# Altium schematic symbol library V2SchLib.SchLib: 46 symbols (part 1 of 3)
Pins are listed as number, name and electrical type; pins without a type are passive.

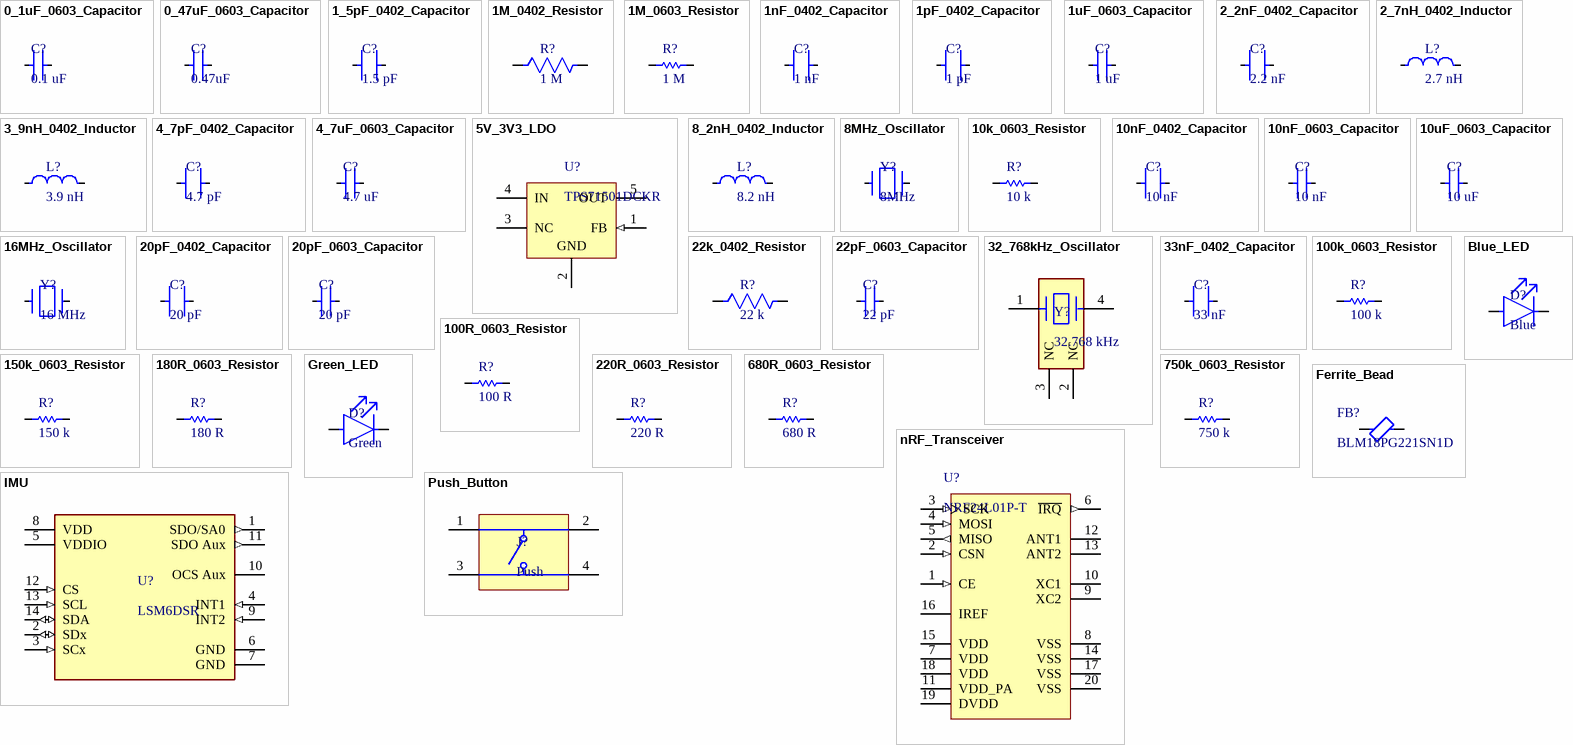
[diagram p0: symbols 0_1uF_0603_Capacitor to Push_Button]

## 0_1uF_0603_Capacitor
designator C?, comment 0.1 uF
Ceramic Capacitor, Multilayer, Ceramic, 50V, 10% +Tol, 10% -Tol, X8L, -40/+15% TC, 0.1uF, Surface Mount, 0603, GCM188L81H104KA57D; Manufacturer: Murata; Value: 100nF; Multilayer: Yes; Reference Standard: AEC-Q200; Supplier: Digikey; Supplier Part Number: 490-6049-1-ND; Manufacturer Part Number: GCM188L81H104KA57D; RoHS: Yes; Category: Ceramic Capacitors; Stock: 1946064; Pricing: 1=0.13, 10=0.087, 50=0.0522, 100=0.0411, 500=0.03032, 1000=0.0251 (USD); Mounting Technology: Surface Mount; Pins: 2; Dielectric Material: Ceramic; Package Shape: Rectangular; Case/Package: 0603; Terminal Finish: Nickel; Min Operating Temperature: -55°C; Max Operating Temperature: 150°C; JESD-609 Code: e3; Capacitor Type: Ceramic; Tolerance  (fill in as +-): 10%; Packaging: Tape and Reel; Tolerance (fill in as +-): 10%; Rated DC Voltage (URdc): 50V; Temperature Characteristics Code: X8L; Termination: Wraparound; Reach SVHC Compliant: Yes; RoHS Compliant: Yes; ComponentLink1URL: https://datasheet.ciiva.com:443/pdfs/VipMasterIC/IC/MURE/MURE-S-A0004370842/MURE-S-A0004371512-1.pdf?src-supplier=IHS+Markit; ComponentLink1Description: https://datasheet.ciiva.com:443/pdfs/VipMasterIC/IC/MURE/MURE-S-A0004370842/MURE-S-A0004371512-1.pdf?src-supplier=IHS+Markit; Supplier 1: Digikey; Supplier Part Number 1: 490-6049-1-ND
footprint 0_1uF_0603_Capacitor
pins: 1, 2

## 0_47uF_0603_Capacitor
designator C?, comment 0.47uF
Ceramic Capacitor, Multilayer, Ceramic, 25V, 10% +Tol, 10% -Tol, X7R, 15% TC, 0.47uF, Surface Mount, 0603, GRM188R71E474KA12D; Manufacturer: Murata; Value: 470nF; Multilayer: Yes; Supplier: Digikey; Supplier Part Number: 490-3291-1-ND; Manufacturer Part Number: GRM188R71E474KA12D; RoHS: Yes; Category: Ceramic Capacitors; Stock: 1965293; Pricing: 1=0.16, 10=0.107, 50=0.0642, 100=0.0505, 500=0.03728, 1000=0.03087 (USD); Mounting Technology: Surface Mount; Pins: 2; Dielectric Material: Ceramic; Package Shape: Rectangular; Case/Package: 0603; Terminal Finish: Nickel; Min Operating Temperature: -55°C; Max Operating Temperature: 125°C; Capacitor Type: Ceramic; Tolerance  (fill in as +-): 10%; Package Style: SMTMeter; Packaging: Tape and Reel; Tolerance (fill in as +-): 10%; Rated DC Voltage (URdc): 25V; Temperature Characteristics Code: X7R; Termination: Wraparound; JESD-609 Code: e3; Length: 1.6mm; Width: 0.8mm; Height: 0.8mm; Reach SVHC Compliant: Yes; RoHS Compliant: Yes; ComponentLink1URL: https://datasheet.ciiva.com:443/pdfs/VipMasterIC/IC/MURE/MURE-S-A0004380799/MURE-S-A0004387457-1.pdf?src-supplier=IHS+Markit; ComponentLink1Description: https://datasheet.ciiva.com:443/pdfs/VipMasterIC/IC/MURE/MURE-S-A0004380799/MURE-S-A0004387457-1.pdf?src-supplier=IHS+Markit; Supplier 1: Digikey; Supplier Part Number 1: 490-3291-1-ND
footprint 0_47uF_0603_Capacitor
pins: 1, 2

## 1_5pF_0402_Capacitor
designator C?, comment 1.5 pF
Ceramic Capacitor, Multilayer, Ceramic, 50V, 6.67% +Tol, 6.67% -Tol, C0G, 30ppm/Cel TC, 0.0000015uF, Surface Mount, 0402, GJM1555C1H1R5BB01D; Manufacturer: Murata; Value: 1.5pF; Multilayer: Yes; Supplier: Digikey; Supplier Part Number: 490-8087-1-ND; Manufacturer Part Number: GJM1555C1H1R5BB01D; RoHS: Yes; Category: Ceramic Capacitors; Stock: 82715; Pricing: 1=0.14, 10=0.095, 50=0.057, 100=0.0449, 500=0.03314, 1000=0.02744, 2500=0.02554, 5000=0.02336 (USD); Mounting Technology: Surface Mount; Pins: 2; Dielectric Material: Ceramic; Package Shape: Rectangular; Case/Package: 0402; Terminal Finish: Nickel; Min Operating Temperature: -55°C; Max Operating Temperature: 125°C; JESD-609 Code: e3; Capacitor Type: Ceramic; Tolerance  (fill in as +-): 6.67%; Package Style: SMTMeter; Packaging: Tape and Reel; Tolerance (fill in as +-): 6.67%; Rated DC Voltage (URdc): 50V; Temperature Characteristics Code: C0G; Termination: Wraparound; Length: 1mm; Width: 0.5mm; Height: 0.5mm; Reach SVHC Compliant: Yes; RoHS Compliant: Yes; ComponentLink1URL: https://datasheet.ciiva.com:443/pdfs/VipMasterIC/IC/MURE/MURE-S-A0008911298/MURE-S-A0008911391-1.pdf?src-supplier=IHS+Markit; ComponentLink1Description: https://datasheet.ciiva.com:443/pdfs/VipMasterIC/IC/MURE/MURE-S-A0008911298/MURE-S-A0008911391-1.pdf?src-supplier=IHS+Markit; ComponentLink2URL: https://datasheet.ciiva.com/8030/1700191-8030107.pdf?src-supplier=Element14; ComponentLink2Description: https://datasheet.ciiva.com/8030/1700191-8030107.pdf?src-supplier=Element14; ComponentLink3URL: https://datasheet.ciiva.com/26843/getdatasheetpartid-698463-26843693.pdf?src-supplier=Verical; ComponentLink3Description: https://datasheet.ciiva.com/26843/getdatasheetpartid-698463-26843693.pdf?src-supplier=Verical; ComponentLink4URL: https://datasheet.ciiva.com/29542/partnumbering-e-01-29542725.pdf?src-supplier=Digikey; ComponentLink4Description: https://datasheet.ciiva.com/29542/partnumbering-e-01-29542725.pdf?src-supplier=Digikey; ComponentLink5URL: https://datasheet.ciiva.com/29542/partnumbering-e-01-29542726.pdf?src-supplier=Digikey; ComponentLink5Description: https://datasheet.ciiva.com/29542/partnumbering-e-01-29542726.pdf?src-supplier=Digikey; ComponentLink6URL: https://datasheet.ciiva.com/16440/l0005e-16440473.pdf?src-supplier=Future+Electronics; ComponentLink6Description: https://datasheet.ciiva.com/16440/l0005e-16440473.pdf?src-supplier=Future+Electronics; Supplier 1: Digikey; Supplier Part Number 1: 490-8087-1-ND
footprint 1_5pF_0402_Capacitor
pins: 1, 2

## 1M_0402_Resistor
designator R?, comment 1 M
Fixed Resistor, Metal Glaze/thick Film, 0.063W, 1000000ohm, 50V, 1% +/-Tol, 100ppm/Cel, Surface Mount, 0402, CRCW04021M00FKED; Manufacturer: Vishay; Power: 63mW; Value: 1MR; Temperature Coefficient: 100ppm/°C; Rated Temperature: 70°C; Package Height: 0.35mm; Package Length: 1mm; Package Width: 0.5mm; Reference Standard: AEC-Q200; Supplier: Digikey; Supplier Part Number: 541-1.00MLCT-ND; Manufacturer Part Number: CRCW04021M00FKED; RoHS: Yes; Category: Chip SMD Resistors; Stock: 378165; Pricing: 1=0.1, 10=0.026, 50=0.0164, 100=0.0137, 500=0.00934, 1000=0.00806, 5000=0.00591 (USD); Mounting Technology: Surface Mount; Pins: 2; Package Shape: Rectangular; Case/Package: 0402; Terminal Finish: Nickel; Min Operating Temperature: -55°C; Max Operating Temperature: 155°C; Tolerance: 1%; JESD-609 Code: e3; Resistor Type: FIXED RESISTOR; Construction: Chip; Package Style: SMTMeter; Packaging: Tape and Reel; Technology: METAL GLAZE/THICK FILM; Working Voltage: 50V; Termination: Wraparound; Reach SVHC Compliant: Yes; RoHS Compliant: Yes; ComponentLink1URL: https://datasheet.ciiva.com:443/pdfs/VipMasterIC/IC/VISH/VISH-S-A0007266705/VISH-S-A0007266705-1.pdf?src-supplier=IHS+Markit; ComponentLink1Description: https://datasheet.ciiva.com:443/pdfs/VipMasterIC/IC/VISH/VISH-S-A0007266705/VISH-S-A0007266705-1.pdf?src-supplier=IHS+Markit; ComponentLink2URL: https://datasheet.ciiva.com/11809/0900766b80d98824-11809936.pdf?src-supplier=Rs; ComponentLink2Description: https://datasheet.ciiva.com/11809/0900766b80d98824-11809936.pdf?src-supplier=Rs; ComponentLink3URL: https://datasheet.ciiva.com/7841/1697337-7841486.pdf?src-supplier=Element14; ComponentLink3Description: https://datasheet.ciiva.com/7841/1697337-7841486.pdf?src-supplier=Element14; ComponentLink4URL: https://datasheet.ciiva.com/7841/1697337-7841806.pdf?src-supplier=Element14; ComponentLink4Description: https://datasheet.ciiva.com/7841/1697337-7841806.pdf?src-supplier=Element14; ComponentLink5URL: https://datasheet.ciiva.com/26316/fld-crcw-e3-data-en-26316602.pdf?src-supplier=Distrelec; ComponentLink5Description: https://datasheet.ciiva.com/26316/fld-crcw-e3-data-en-26316602.pdf?src-supplier=Distrelec; ComponentLink6URL: https://datasheet.ciiva.com/2463/dcrcwe3-2463361.pdf?src-supplier=Digikey; ComponentLink6Description: https://datasheet.ciiva.com/2463/dcrcwe3-2463361.pdf?src-supplier=Digikey; ComponentLink7URL: https://datasheet.ciiva.com/2463/dcrcwe3-2463362.pdf?src-supplier=Digikey; ComponentLink7Description: https://datasheet.ciiva.com/2463/dcrcwe3-2463362.pdf?src-supplier=Digikey; ComponentLink8URL: https://datasheet.ciiva.com/2463/dcrcwe3-2463363.pdf?src-supplier=Digikey; ComponentLink8Description: https://datasheet.ciiva.com/2463/dcrcwe3-2463363.pdf?src-supplier=Digikey; ComponentLink9URL: https://datasheet.ciiva.com/3256/dcrcwe3-3256185.pdf?src-supplier=Avnet; ComponentLink9Description: https://datasheet.ciiva.com/3256/dcrcwe3-3256185.pdf?src-supplier=Avnet; ComponentLink10URL: https://datasheet.ciiva.com/3256/dcrcwe3-3256184.pdf?src-supplier=Avnet; ComponentLink10Description: https://datasheet.ciiva.com/3256/dcrcwe3-3256184.pdf?src-supplier=Avnet; ComponentLink11URL: https://datasheet.ciiva.com/5548/dcrcwe3-109170-5548277.pdf?src-supplier=Mouser; ComponentLink11Description: https://datasheet.ciiva.com/5548/dcrcwe3-109170-5548277.pdf?src-supplier=Mouser; ComponentLink12URL: https://datasheet.ciiva.com/16211/dcrcwe3-16211596.pdf?src-supplier=Future+Electronics; ComponentLink12Description: https://datasheet.ciiva.com/16211/dcrcwe3-16211596.pdf?src-supplier=Future+Electronics; Supplier 1: Digikey; Supplier Part Number 1: 541-1.00MLCT-ND
footprint 1M_0402_Resistor
pins: 1, 2

## 1M_0603_Resistor
designator R?, comment 1 M
Fixed Resistor, Metal Glaze/thick Film, 0.1W, 1000000ohm, 75V, 1% +/-Tol, 100ppm/Cel, Surface Mount, 0603, CRCW06031M00FKEA; Manufacturer: Vishay; Power: 100mW; Value: 1MR; Temperature Coefficient: 100ppm/°C; Rated Temperature: 70°C; Package Height: 0.45mm; Package Length: 1.55mm; Package Width: 0.85mm; Reference Standard: AEC-Q200; Supplier: Digikey; Supplier Part Number: 541-1.00MHCT-ND; Manufacturer Part Number: CRCW06031M00FKEA; RoHS: Yes; Category: Chip SMD Resistors; Stock: 583183; Pricing: 1=0.1, 10=0.026, 50=0.0166, 100=0.014, 500=0.00954, 1000=0.00824 (USD); Mounting Technology: Surface Mount; Pins: 2; Case/Package: 0603; Package Shape: Rectangular; Terminal Finish: Nickel; Min Operating Temperature: -55°C; Max Operating Temperature: 155°C; Tolerance: 1%; Resistor Type: FIXED RESISTOR; Construction: Chip; Package Style: SMTMeter; Packaging: Tape and Reel; Working Voltage: 75V; JESD-609 Code: e3; Termination: Wraparound; Technology: METAL GLAZE/THICK FILM; Reach SVHC Compliant: Yes; RoHS Compliant: Yes; ComponentLink1URL: https://datasheet.ciiva.com:443/pdfs/VipMasterIC/IC/VISH/VISH-S-A0007266705/VISH-S-A0007266705-1.pdf?src-supplier=IHS+Markit; ComponentLink1Description: https://datasheet.ciiva.com:443/pdfs/VipMasterIC/IC/VISH/VISH-S-A0007266705/VISH-S-A0007266705-1.pdf?src-supplier=IHS+Markit; ComponentLink2URL: https://datasheet.ciiva.com/11809/0900766b80d98afc-11809074.pdf?src-supplier=Rs; ComponentLink2Description: https://datasheet.ciiva.com/11809/0900766b80d98afc-11809074.pdf?src-supplier=Rs; ComponentLink3URL: https://datasheet.ciiva.com/2465/dcrcwe3-2465549.pdf?src-supplier=Digikey; ComponentLink3Description: https://datasheet.ciiva.com/2465/dcrcwe3-2465549.pdf?src-supplier=Digikey; ComponentLink4URL: https://datasheet.ciiva.com/2465/dcrcwe3-2465550.pdf?src-supplier=Digikey; ComponentLink4Description: https://datasheet.ciiva.com/2465/dcrcwe3-2465550.pdf?src-supplier=Digikey; ComponentLink5URL: https://datasheet.ciiva.com/2465/dcrcwe3-2465551.pdf?src-supplier=Digikey; ComponentLink5Description: https://datasheet.ciiva.com/2465/dcrcwe3-2465551.pdf?src-supplier=Digikey; ComponentLink6URL: https://datasheet.ciiva.com/7841/1720486-7841822.pdf?src-supplier=Element14; ComponentLink6Description: https://datasheet.ciiva.com/7841/1720486-7841822.pdf?src-supplier=Element14; ComponentLink7URL: https://datasheet.ciiva.com/7841/125364-7841823.pdf?src-supplier=Element14; ComponentLink7Description: https://datasheet.ciiva.com/7841/125364-7841823.pdf?src-supplier=Element14; ComponentLink8URL: https://datasheet.ciiva.com/26314/fld-crcw-e3-data-en-26314645.pdf?src-supplier=Distrelec; ComponentLink8Description: https://datasheet.ciiva.com/26314/fld-crcw-e3-data-en-26314645.pdf?src-supplier=Distrelec; ComponentLink9URL: https://datasheet.ciiva.com/16311/dcrcwe3-16311533.pdf?src-supplier=Future+Electronics; ComponentLink9Description: https://datasheet.ciiva.com/16311/dcrcwe3-16311533.pdf?src-supplier=Future+Electronics; Supplier 1: Digikey; Supplier Part Number 1: 541-1.00MHCT-ND
footprint 1M_0603_Resistor
pins: 1, 2

## 1nF_0402_Capacitor
designator C?, comment 1 nF
Ceramic Capacitor, Multilayer, Ceramic, 50V, 5% +Tol, 5% -Tol, C0G, 30ppm/Cel TC, 0.001uF, Surface Mount, 0402, GRM1555C1H102JA01D; Manufacturer: Murata; Value: 1nF; Multilayer: Yes; Supplier: Digikey; Supplier Part Number: 490-3244-1-ND; Manufacturer Part Number: GRM1555C1H102JA01D; RoHS: Yes; Category: Ceramic Capacitors; Stock: 19426344; Pricing: 1=0.1, 10=0.025, 50=0.0146, 100=0.0113, 500=0.00848, 1000=0.00666, 2500=0.00605, 5000=0.00557 (USD); Mounting Technology: Surface Mount; Pins: 2; Dielectric Material: Ceramic; Package Shape: Rectangular; Case/Package: 0402; Terminal Finish: Nickel; Min Operating Temperature: -55°C; Max Operating Temperature: 125°C; Capacitor Type: Ceramic; JESD-609 Code: e3; Tolerance  (fill in as +-): 5%; Package Style: SMTMeter; Packaging: Tape and Reel; Tolerance (fill in as +-): 5%; Rated DC Voltage (URdc): 50V; Temperature Characteristics Code: C0G; Termination: Wraparound; Length: 1mm; Width: 0.5mm; Height: 0.5mm; Reach SVHC Compliant: Yes; RoHS Compliant: Yes; ComponentLink1URL: https://psearch.en.murata.com:443/capacitor/product/GRM1555C1H102JA01%23.pdf?src-supplier=IHS+Markit; ComponentLink1Description: https://psearch.en.murata.com:443/capacitor/product/GRM1555C1H102JA01%23.pdf?src-supplier=IHS+Markit; ComponentLink2URL: https://datasheet.ciiva.com/11786/0900766b807a1cab-11786727.pdf?src-supplier=Rs; ComponentLink2Description: https://datasheet.ciiva.com/11786/0900766b807a1cab-11786727.pdf?src-supplier=Rs; ComponentLink3URL: https://datasheet.ciiva.com/132/grm1555c1h102ja01-01-132799.pdf?src-supplier=Digikey; ComponentLink3Description: https://datasheet.ciiva.com/132/grm1555c1h102ja01-01-132799.pdf?src-supplier=Digikey; ComponentLink4URL: https://datasheet.ciiva.com/132/product-132800.pdf?src-supplier=Digikey; ComponentLink4Description: https://datasheet.ciiva.com/132/product-132800.pdf?src-supplier=Digikey; ComponentLink5URL: https://datasheet.ciiva.com/18184/getdatasheetpartid-90260-18184180.pdf?src-supplier=Verical; ComponentLink5Description: https://datasheet.ciiva.com/18184/getdatasheetpartid-90260-18184180.pdf?src-supplier=Verical; ComponentLink6URL: https://datasheet.ciiva.com/34302/1855908-34302849.pdf?src-supplier=Jameco; ComponentLink6Description: https://datasheet.ciiva.com/34302/1855908-34302849.pdf?src-supplier=Jameco; ComponentLink7URL: https://datasheet.ciiva.com/29200/453569-da-01-en-vs-kondensator-0402-29200121.pdf?src-supplier=Conrad; ComponentLink7Description: https://datasheet.ciiva.com/29200/453569-da-01-en-vs-kondensator-0402-29200121.pdf?src-supplier=Conrad; ComponentLink8URL: https://datasheet.ciiva.com/14116/grmseries-tc-hitype-eng-14116858.pdf?src-supplier=Distrelec; ComponentLink8Description: https://datasheet.ciiva.com/14116/grmseries-tc-hitype-eng-14116858.pdf?src-supplier=Distrelec; ComponentLink9URL: https://datasheet.ciiva.com/14116/grmseries-tc-hitype-eng-14116919.pdf?src-supplier=Distrelec; ComponentLink9Description: https://datasheet.ciiva.com/14116/grmseries-tc-hitype-eng-14116919.pdf?src-supplier=Distrelec; ComponentLink10URL: https://datasheet.ciiva.com/7828/4360-7828821.pdf?src-supplier=Element14; ComponentLink10Description: https://datasheet.ciiva.com/7828/4360-7828821.pdf?src-supplier=Element14; ComponentLink11URL: https://datasheet.ciiva.com/7828/1747436-7828822.pdf?src-supplier=Element14; ComponentLink11Description: https://datasheet.ciiva.com/7828/1747436-7828822.pdf?src-supplier=Element14; ComponentLink12URL: https://datasheet.ciiva.com/132/grm1555c1h102ja01-01-132801.pdf?src-supplier=Digikey; ComponentLink12Description: https://datasheet.ciiva.com/132/grm1555c1h102ja01-01-132801.pdf?src-supplier=Digikey; Supplier 1: Digikey; Supplier Part Number 1: 490-3244-1-ND
footprint 1nF_0402_Capacitor
pins: 1, 2

## 1pF_0402_Capacitor
designator C?, comment 1 pF
Ceramic Capacitor, Multilayer, Ceramic, 50V, 5% +Tol, 5% -Tol, C0G, 30ppm/Cel TC, 0.000001uF, Surface Mount, 0402, GJM1555C1H1R0WB01D; Manufacturer: Murata; Value: 1pF; Multilayer: Yes; Supplier: Digikey; Supplier Part Number: 490-11193-1-ND; Manufacturer Part Number: GJM1555C1H1R0WB01D; RoHS: Yes; Category: Ceramic Capacitors; Stock: 48946; Pricing: 1=0.18, 10=0.122, 50=0.073, 100=0.0574, 500=0.04242, 1000=0.03511, 2500=0.03268, 5000=0.0299 (USD); Mounting Technology: Surface Mount; Pins: 2; Dielectric Material: Ceramic; Package Shape: Rectangular; Case/Package: 0402; Terminal Finish: Nickel; Min Operating Temperature: -55°C; Max Operating Temperature: 125°C; JESD-609 Code: e3; Capacitor Type: Ceramic; Tolerance  (fill in as +-): 5%; Package Style: SMTMeter; Packaging: Tape and Reel; Tolerance (fill in as +-): 5%; Rated DC Voltage (URdc): 50V; Temperature Characteristics Code: C0G; Termination: Wraparound; Length: 1mm; Width: 0.5mm; Height: 0.5mm; Reach SVHC Compliant: Yes; RoHS Compliant: Yes; ComponentLink1URL: https://datasheet.ciiva.com:443/pdfs/VipMasterIC/IC/MURE/MURE-S-A0004378008/MURE-S-A0004383032-1.pdf?src-supplier=IHS+Markit; ComponentLink1Description: https://datasheet.ciiva.com:443/pdfs/VipMasterIC/IC/MURE/MURE-S-A0004378008/MURE-S-A0004383032-1.pdf?src-supplier=IHS+Markit; ComponentLink2URL: https://datasheet.ciiva.com/11616/product-11616304.pdf?src-supplier=Avnet; ComponentLink2Description: https://datasheet.ciiva.com/11616/product-11616304.pdf?src-supplier=Avnet; Supplier 1: Digikey; Supplier Part Number 1: 490-11193-1-ND
footprint 1pF_0402_Capacitor
pins: 1, 2

## 1uF_0603_Capacitor
designator C?, comment 1 uF
Ceramic Capacitor, Multilayer, Ceramic, 50V, 10% +Tol, 10% -Tol, X5R, 15% TC, 1uF, Surface Mount, 0603, CC0603KRX5R9BB105; Manufacturer: Yageo; Multilayer: Yes; Supplier: Digikey; Supplier Part Number: 311-1787-1-ND; Manufacturer Part Number: CC0603KRX5R9BB105; RoHS: Yes; Category: Ceramic Capacitors; Stock: 90188; Pricing: 1=0.27, 10=0.178, 50=0.1124, 100=0.09, 500=0.065, 1000=0.05749 (USD); Mounting Technology: Surface Mount; Pins: 2; Dielectric Material: Ceramic; Package Shape: Rectangular; Case/Package: 0603; Terminal Finish: Nickel; Min Operating Temperature: -55°C; Max Operating Temperature: 85°C; JESD-609 Code: e3; Value: 1uF; Capacitor Type: Ceramic; Tolerance  (fill in as +-): 10%; Package Style: SMTMeter; Packaging: Tape and Reel; Tolerance (fill in as +-): 10%; Rated DC Voltage (URdc): 50V; Temperature Characteristics Code: X5R; Termination: Wraparound; Length: 1.6mm; Width: 0.8mm; Height: 0.8mm; Reach SVHC Compliant: Yes; RoHS Compliant: Yes; ComponentLink1URL: https://datasheet.ciiva.com:443/pdfs/VipMasterIC/IC/YAGO/YAGO-S-A0006851646/YAGO-S-A0006851646-1.pdf?src-supplier=IHS+Markit; ComponentLink1Description: https://datasheet.ciiva.com:443/pdfs/VipMasterIC/IC/YAGO/YAGO-S-A0006851646/YAGO-S-A0006851646-1.pdf?src-supplier=IHS+Markit; ComponentLink2URL: http://www.mouser.com/ds/2/447/Yageo_UPY-GP_NP0_16V-to-50V_9-358835.pdf?src-supplier=Mouser; ComponentLink2Description: http://www.mouser.com/ds/2/447/Yageo_UPY-GP_NP0_16V-to-50V_9-358835.pdf?src-supplier=Mouser; ComponentLink3URL: https://datasheet.octopart.com/CC0603KRX5R9BB105-Yageo-datasheet-170350636.pdf?src-supplier=Future+Electronics; ComponentLink3Description: https://datasheet.octopart.com/CC0603KRX5R9BB105-Yageo-datasheet-170350636.pdf?src-supplier=Future+Electronics; ComponentLink4URL: http://www.yageo.com/documents/recent/UPY-GPHC_X5R_4V-to-50V_25.pdf?src-supplier=Digikey; ComponentLink4Description: http://www.yageo.com/documents/recent/UPY-GPHC_X5R_4V-to-50V_25.pdf?src-supplier=Digikey; ComponentLink5URL: https://datasheet.octopart.com/CC0603KRX5R9BB105-Yageo-datasheet-140260304.pdf?src-supplier=Newark; ComponentLink5Description: https://datasheet.octopart.com/CC0603KRX5R9BB105-Yageo-datasheet-140260304.pdf?src-supplier=Newark; Supplier 1: Digikey; Supplier Part Number 1: 311-1787-1-ND
footprint 1uF_0603_Capacitor
pins: 1, 2

## 2_2nF_0402_Capacitor
designator C?, comment 2.2 nF
Ceramic Capacitor, Multilayer, Ceramic, 50V, 10% +Tol, 10% -Tol, X7R, 15% TC, 0.0022uF, Surface Mount, 0402, CC0402KRX7R9BB222; Manufacturer: Yageo; Value: 2.2nF; Multilayer: Yes; Supplier: Digikey; Supplier Part Number: 311-1037-1-ND; Manufacturer Part Number: CC0402KRX7R9BB222; RoHS: Yes; Category: Ceramic Capacitors; Stock: 310458; Pricing: 1=0.1, 10=0.017, 50=0.0098, 100=0.0076, 500=0.00572, 1000=0.0045, 2500=0.00409, 5000=0.00376 (USD); Mounting Technology: Surface Mount; Pins: 2; Dielectric Material: Ceramic; Package Shape: Rectangular; Case/Package: 0402; Terminal Finish: Nickel; Min Operating Temperature: -55°C; Max Operating Temperature: 125°C; JESD-609 Code: e3; Capacitor Type: Ceramic; Tolerance  (fill in as +-): 10%; Package Style: SMTMeter; Packaging: Tape and Reel; Tolerance (fill in as +-): 10%; Rated DC Voltage (URdc): 50V; Temperature Characteristics Code: X7R; Termination: Wraparound; Length: 1mm; Width: 0.5mm; Height: 0.5mm; Reach SVHC Compliant: Yes; RoHS Compliant: Yes; ComponentLink1URL: https://datasheet.ciiva.com:443/pdfs/VipMasterIC/IC/YAGO/YAGO-S-A0003557223/YAGO-S-A0003557223-1.pdf?src-supplier=IHS+Markit; ComponentLink1Description: https://datasheet.ciiva.com:443/pdfs/VipMasterIC/IC/YAGO/YAGO-S-A0003557223/YAGO-S-A0003557223-1.pdf?src-supplier=IHS+Markit; ComponentLink2URL: https://datasheet.ciiva.com/26862/getdatasheetpartid-315909-26862649.pdf?src-supplier=Verical; ComponentLink2Description: https://datasheet.ciiva.com/26862/getdatasheetpartid-315909-26862649.pdf?src-supplier=Verical; ComponentLink3URL: https://datasheet.ciiva.com/155/mlccorderingcode-155866.pdf?src-supplier=Digikey; ComponentLink3Description: https://datasheet.ciiva.com/155/mlccorderingcode-155866.pdf?src-supplier=Digikey; ComponentLink4URL: https://datasheet.ciiva.com/155/mlccorderingcode-155867.pdf?src-supplier=Digikey; ComponentLink4Description: https://datasheet.ciiva.com/155/mlccorderingcode-155867.pdf?src-supplier=Digikey; ComponentLink5URL: https://datasheet.ciiva.com/155/mlccorderingcode-155868.pdf?src-supplier=Digikey; ComponentLink5Description: https://datasheet.ciiva.com/155/mlccorderingcode-155868.pdf?src-supplier=Digikey; ComponentLink6URL: https://datasheet.ciiva.com/11464/upy-gphc-x7r-6-3v-to-50v-8-11464903.pdf?src-supplier=Avnet; ComponentLink6Description: https://datasheet.ciiva.com/11464/upy-gphc-x7r-6-3v-to-50v-8-11464903.pdf?src-supplier=Avnet; ComponentLink7URL: https://datasheet.ciiva.com/8033/1489800-8033625.pdf?src-supplier=Element14; ComponentLink7Description: https://datasheet.ciiva.com/8033/1489800-8033625.pdf?src-supplier=Element14; ComponentLink8URL: https://datasheet.ciiva.com/8033/70765-8033626.pdf?src-supplier=Element14; ComponentLink8Description: https://datasheet.ciiva.com/8033/70765-8033626.pdf?src-supplier=Element14; ComponentLink9URL: https://datasheet.ciiva.com/8033/1489800-8033627.pdf?src-supplier=Element14; ComponentLink9Description: https://datasheet.ciiva.com/8033/1489800-8033627.pdf?src-supplier=Element14; Supplier 1: Digikey; Supplier Part Number 1: 311-1037-1-ND
footprint 2_2nF_0402_Capacitor
pins: 1, 2

## 2_7nH_0402_Inductor
designator L?, comment 2.7 nH
General Purpose Inductor, 0.0027uH, 18.519%, 1 Element, Alumina-Core, SMD, 0402, LQW15AN2N7D00D; Manufacturer: Murata; Case/Size Code: 0402; DC Resistance (DCR): 50mR; Inductor Application: RF INDUCTOR; Channels: 1; Quality Factor-Min (at L-nom): 20; Max Current Rating: 850mA; Self Resonant Frequency: 15GHz; Shape/Size Description: RECTANGULAR PACKAGE; Shielding: Unshielded; Test Frequency: 100MHz; Package Height: 0.5mm; Package Length: 1mm; Package Width: 0.6mm; Supplier: Digikey; Supplier Part Number: 490-1137-1-ND; Manufacturer Part Number: LQW15AN2N7D00D; RoHS: Yes; Category: Fixed Inductors; Stock: 37602; Pricing: 1=0.14, 10=0.114, 25=0.1052, 50=0.0928, 100=0.0811, 250=0.07724, 500=0.07262, 1000=0.05562, 2500=0.05253 (USD); Pins: 2; Core Material: Alumina; Terminal Finish: Nickel; Min Operating Temperature: -55°C; Max Operating Temperature: 125°C; Tolerance: 18.519%; JESD-609 Code: e3; Construction: Wirewound Chip; Inductance-Nom (L): 0.0027uH; Inductor Type: GENERAL PURPOSE INDUCTOR; Package Style: SMTMeter; Packaging: Tape and Reel; Surface Mount: Yes; Terminal Placement: Dual Ended; Termination: One Surface; Reach SVHC Compliant: Yes; RoHS Compliant: Yes; ComponentLink1URL: https://datasheet.ciiva.com:443/pdfs/VipMasterIC/IC/MURE/MURE-S-A0004391032/MURE-S-A0004391027-1.pdf?src-supplier=IHS+Markit; ComponentLink1Description: https://datasheet.ciiva.com:443/pdfs/VipMasterIC/IC/MURE/MURE-S-A0004391032/MURE-S-A0004391027-1.pdf?src-supplier=IHS+Markit; ComponentLink2URL: https://datasheet.ciiva.com/11799/0900766b8090d5c4-11799044.pdf?src-supplier=Rs; ComponentLink2Description: https://datasheet.ciiva.com/11799/0900766b8090d5c4-11799044.pdf?src-supplier=Rs; ComponentLink3URL: https://datasheet.ciiva.com/8510/l0075s0080lqw15a-00-8510431.pdf?src-supplier=Avnet; ComponentLink3Description: https://datasheet.ciiva.com/8510/l0075s0080lqw15a-00-8510431.pdf?src-supplier=Avnet; ComponentLink4URL: https://datasheet.ciiva.com/1042/l0075s0080lqw15a-00-1042210.pdf?src-supplier=Digikey; ComponentLink4Description: https://datasheet.ciiva.com/1042/l0075s0080lqw15a-00-1042210.pdf?src-supplier=Digikey; ComponentLink5URL: https://datasheet.ciiva.com/1042/l0075s0080lqw15a-00-1042211.pdf?src-supplier=Digikey; ComponentLink5Description: https://datasheet.ciiva.com/1042/l0075s0080lqw15a-00-1042211.pdf?src-supplier=Digikey; ComponentLink6URL: https://datasheet.ciiva.com/1042/l0075s0080lqw15a-00-1042212.pdf?src-supplier=Digikey; ComponentLink6Description: https://datasheet.ciiva.com/1042/l0075s0080lqw15a-00-1042212.pdf?src-supplier=Digikey; ComponentLink7URL: https://datasheet.ciiva.com/4977/product-4977324.pdf?src-supplier=Mouser; ComponentLink7Description: https://datasheet.ciiva.com/4977/product-4977324.pdf?src-supplier=Mouser; Supplier 1: Digikey; Supplier Part Number 1: 490-1137-1-ND
footprint 2_7nH_0402_Inductor
pins: 1, 2

## 3_9nH_0402_Inductor
designator L?, comment 3.9 nH
General Purpose Inductor, 0.0039uH, 2.564%, 1 Element, SMD, 0402, LQW15AN3N9B80D; Manufacturer: Murata; DC Resistance (DCR): 30mR; Inductor Application: RF INDUCTOR; Channels: 1; Quality Factor-Min (at L-nom): 35; Max Current Rating: 1.95A; Self Resonant Frequency: 10GHz; Shape/Size Description: RECTANGULAR PACKAGE; Shielding: Unshielded; Test Frequency: 100MHz; Supplier: Digikey; Supplier Part Number: 490-16884-1-ND; Manufacturer Part Number: LQW15AN3N9B80D; RoHS: Yes; Category: Fixed Inductors; Stock: 21269; Pricing: 1=0.22, 10=0.183, 25=0.168, 50=0.1484, 100=0.1298, 250=0.1236, 500=0.11618, 1000=0.08899, 2500=0.08405 (USD); Pins: 2; Terminal Finish: Tin; Min Operating Temperature: -55°C; Max Operating Temperature: 125°C; Tolerance: 2.564%; JESD-609 Code: e3; Inductance-Nom (L): 0.0039uH; Inductor Type: GENERAL PURPOSE INDUCTOR; Surface Mount: Yes; Terminal Placement: Dual Ended; Termination: One Surface; Reach SVHC Compliant: Yes; RoHS Compliant: Yes; ComponentLink1URL: https://datasheet.ciiva.com:443/pdfs/VipMasterIC/IC/MURE/MURE-S-A0004390746/MURE-S-A0004390825-1.pdf?src-supplier=IHS+Markit; ComponentLink1Description: https://datasheet.ciiva.com:443/pdfs/VipMasterIC/IC/MURE/MURE-S-A0004390746/MURE-S-A0004390825-1.pdf?src-supplier=IHS+Markit; ComponentLink2URL: https://datasheet.ciiva.com/29692/l0075e-29692360.pdf?src-supplier=Digikey; ComponentLink2Description: https://datasheet.ciiva.com/29692/l0075e-29692360.pdf?src-supplier=Digikey; Supplier 1: Digikey; Supplier Part Number 1: 490-16884-1-ND
footprint 3_9nH_0402_Inductor
pins: 1, 2

## 4_7pF_0402_Capacitor
designator C?, comment 4.7 pF
Ceramic Capacitor, Multilayer, Ceramic, 50V, 5.32% +Tol, 5.32% -Tol, C0G, 30ppm/Cel TC, 0.0000047uF, Surface Mount, 0402, GJM1555C1H4R7CB01D; Manufacturer: Murata; Value: 4.7pF; Multilayer: Yes; Supplier: Digikey; Supplier Part Number: 490-3100-1-ND; Manufacturer Part Number: GJM1555C1H4R7CB01D; RoHS: Yes; Category: Ceramic Capacitors; Stock: 754324; Pricing: 1=0.1, 10=0.047, 50=0.0268, 100=0.0208, 500=0.01566, 1000=0.0123, 2500=0.01118, 5000=0.01029 (USD); Mounting Technology: Surface Mount; Pins: 2; Dielectric Material: Ceramic; Package Shape: Rectangular; Case/Package: 0402; Terminal Finish: Nickel; Min Operating Temperature: -55°C; Max Operating Temperature: 125°C; JESD-609 Code: e3; Capacitor Type: Ceramic; Tolerance  (fill in as +-): 5.32%; Package Style: SMTMeter; Packaging: Tape and Reel; Tolerance (fill in as +-): 5.32%; Rated DC Voltage (URdc): 50V; Temperature Characteristics Code: C0G; Termination: Wraparound; Length: 1mm; Width: 0.5mm; Height: 0.5mm; Reach SVHC Compliant: Yes; RoHS Compliant: Yes; ComponentLink1URL: https://datasheet.ciiva.com:443/pdfs/VipMasterIC/IC/MURE/MURE-S-A0008911298/MURE-S-A0008911422-1.pdf?src-supplier=IHS+Markit; ComponentLink1Description: https://datasheet.ciiva.com:443/pdfs/VipMasterIC/IC/MURE/MURE-S-A0008911298/MURE-S-A0008911422-1.pdf?src-supplier=IHS+Markit; ComponentLink2URL: https://datasheet.ciiva.com/11789/0900766b80ef921d-11789169.pdf?src-supplier=Rs; ComponentLink2Description: https://datasheet.ciiva.com/11789/0900766b80ef921d-11789169.pdf?src-supplier=Rs; ComponentLink3URL: https://datasheet.ciiva.com/11613/product-11613025.pdf?src-supplier=Avnet; ComponentLink3Description: https://datasheet.ciiva.com/11613/product-11613025.pdf?src-supplier=Avnet; ComponentLink4URL: https://datasheet.ciiva.com/18183/getdatasheetpartid-178941-18183849.pdf?src-supplier=Verical; ComponentLink4Description: https://datasheet.ciiva.com/18183/getdatasheetpartid-178941-18183849.pdf?src-supplier=Verical; ComponentLink5URL: https://datasheet.ciiva.com/8030/1700177-8030123.pdf?src-supplier=Element14; ComponentLink5Description: https://datasheet.ciiva.com/8030/1700177-8030123.pdf?src-supplier=Element14; ComponentLink6URL: https://datasheet.ciiva.com/5694/1700177-5694989.pdf?src-supplier=Farnell; ComponentLink6Description: https://datasheet.ciiva.com/5694/1700177-5694989.pdf?src-supplier=Farnell; ComponentLink7URL: https://datasheet.ciiva.com/133/partnumbering-e-01-133147.pdf?src-supplier=Digikey; ComponentLink7Description: https://datasheet.ciiva.com/133/partnumbering-e-01-133147.pdf?src-supplier=Digikey; ComponentLink8URL: https://datasheet.ciiva.com/133/partnumbering-e-01-133148.pdf?src-supplier=Digikey; ComponentLink8Description: https://datasheet.ciiva.com/133/partnumbering-e-01-133148.pdf?src-supplier=Digikey; ComponentLink9URL: https://datasheet.ciiva.com/133/partnumbering-e-01-133149.pdf?src-supplier=Digikey; ComponentLink9Description: https://datasheet.ciiva.com/133/partnumbering-e-01-133149.pdf?src-supplier=Digikey; ComponentLink10URL: https://datasheet.ciiva.com/16440/l0005e-16440462.pdf?src-supplier=Future+Electronics; ComponentLink10Description: https://datasheet.ciiva.com/16440/l0005e-16440462.pdf?src-supplier=Future+Electronics; Supplier 1: Digikey; Supplier Part Number 1: 490-3100-1-ND
footprint 4_7pF_0402_Capacitor
pins: 1, 2

## 4_7uF_0603_Capacitor
designator C?, comment 4.7 uF
Ceramic Capacitor, Multilayer, Ceramic, 16V, 10% +Tol, 10% -Tol, X5R, 15% TC, 4.7uF, Surface Mount, 0603, GRM188R61C475KAAJD; Manufacturer: Murata; Multilayer: Yes; Supplier: Mouser; Supplier Part Number: 81-GRM188R61C475KAJD; Manufacturer Part Number: GRM188R61C475KAAJD; RoHS: Yes; Category: Ceramic Capacitors; Stock: 109257; Pricing: 1=0.28, 10=0.194, 50=0.194, 100=0.117, 1000=0.09, 10000=0.074 (USD); Mounting Technology: Surface Mount; Pins: 2; Dielectric Material: Ceramic; Package Shape: Rectangular; Case/Package: 0603; Terminal Finish: Nickel; Min Operating Temperature: -55°C; Max Operating Temperature: 85°C; JESD-609 Code: e3; Value: 4.7uF; Capacitor Type: Ceramic; Tolerance  (fill in as +-): 10%; Packaging: Tape and Reel; Tolerance (fill in as +-): 10%; Rated DC Voltage (URdc): 16V; Temperature Characteristics Code: X5R; Termination: Wraparound; Reach SVHC Compliant: Yes; RoHS Compliant: Yes; ComponentLink1URL: https://datasheet.ciiva.com:443/pdfs/VipMasterIC/IC/MURE/MURE-S-A0004349797/MURE-S-A0004352628-1.pdf?src-supplier=IHS+Markit; ComponentLink1Description: https://datasheet.ciiva.com:443/pdfs/VipMasterIC/IC/MURE/MURE-S-A0004349797/MURE-S-A0004352628-1.pdf?src-supplier=IHS+Markit; ComponentLink2URL: https://datasheet.ciiva.com/14813/595grm188r61c475kaaj23-14813668.pdf?src-supplier=Arrow+Electronics; ComponentLink2Description: https://datasheet.ciiva.com/14813/595grm188r61c475kaaj23-14813668.pdf?src-supplier=Arrow+Electronics; Supplier 1: Mouser; Supplier Part Number 1: 81-GRM188R61C475KAJD
footprint 4_7uF_0603_Capacitor
pins: 1, 2

## 5V_3V3_LDO
designator U?, comment TPS71501DCKR
Adjustable Positive LDO Regulator, 1.2V Min, 15V Max, 0.75V Dropout, PMOS, PDSO5, TPS71501DCKR Texas Instruments; Manufacturer Part Number: TPS71533DCKR; Package Body Material: Plastic; Adjustability: FIXED; Dropout Voltage1-Max: 750mV; Dropout Voltage1-Nom: 415mV; Input Voltage Absolute-Max: 24V; Min Input Voltage: 4.05V; Channels: 1; Output Current1-Max: 50mA; Output Voltage1-Max: 3.432V; Output Voltage1-Min: 3.168V; Output Voltage1-Nom: 3.3V; Regulator Type: FIXED POSITIVE SINGLE OUTPUT LDO REGULATOR; Voltage Tolerance-Max: 4%; Package Equivalence Code: TSSOP5/6,.08; Line Regulation-Max: 0.06%; Qualification Status: Not Qualified; Line Regulation-Max (%/V): 0.23; Supplier: Digikey; Supplier Part Number: 296-12008-1-ND; Manufacturer: Texas Instruments; RoHS: Yes; Category: Voltage Regulators - Linear; Stock: 232813; Pricing: 1=0.88, 10=0.773, 25=0.7264, 100=0.5928, 250=0.55064, 500=0.46864, 1000=0.37491 (USD); Case/Package: TSSOP; Pins: 5; Package Shape: Rectangular; Terminal Finish: Nickel; JESD-609 Code: e4; Max Supply Voltage: 24V; Number of Outputs: 1; Operating Temperature, TJ-Max: 125°C; Operating Temperature, TJ-Min: -40°C; Package Style: SMALL OUTLINE, THIN PROFILE, SHRINK PITCHMeter; Surface Mount: Yes; Technology: PMOS; Terminal Form: Gull Wing; Terminal Position: DUAL; JESD-30 Code: R-PDSO-G5; Moisture Sensitivity Level: 1; Packaging: Tape and Reel; Peak Reflow Temperature (Cel): 260°C; Length: 2mm; Width: 1.25mm; Terminal Pitch: 0.65mm; Height - Seated (Max): 1.1mm; Reach SVHC Compliant: Yes; RoHS Compliant: Yes; ComponentLink1URL: https://www.ti.com:443/lit/ds/symlink/tps715.pdf?src-supplier=IHS+Markit; ComponentLink1Description: https://www.ti.com:443/lit/ds/symlink/tps715.pdf?src-supplier=IHS+Markit; ComponentLink2URL: https://datasheet.ciiva.com/22700/1835023-22700176.pdf?src-supplier=Element14; ComponentLink2Description: https://datasheet.ciiva.com/22700/1835023-22700176.pdf?src-supplier=Element14; ComponentLink3URL: https://datasheet.ciiva.com/7992/1854688-7992972.pdf?src-supplier=Element14; ComponentLink3Description: https://datasheet.ciiva.com/7992/1854688-7992972.pdf?src-supplier=Element14; ComponentLink4URL: https://datasheet.ciiva.com/34301/1116531-34301990.pdf?src-supplier=Jameco; ComponentLink4Description: https://datasheet.ciiva.com/34301/1116531-34301990.pdf?src-supplier=Jameco; Supplier 1: Digikey; Supplier Part Number 1: 296-12957-1-ND
footprint 5V_3V3_LDO (SOT23, 5-Leads, Body 2.15x1.4mm, Pitch 0.65mm, IPC High Density)
pins: 1 FB (in) "Feedback. This terminal is used to set the output voltage.", 2 GND (power) "Ground", 3 NC "No connection", 4 IN (power) "Input supply", 5 OUT (power) "Output of the regulator, any output capacitor >= 0.47 uF can be used for stability."

## 8_2nH_0402_Inductor
designator L?, comment 8.2 nH
General Purpose Inductor, 0.0082uH, 2%, 1 Element, Alumina-Core, SMD, 0402, LQW15AN8N2G00D; Manufacturer: Murata; Case/Size Code: 0402; DC Resistance (DCR): 140mR; Inductor Application: RF INDUCTOR; Channels: 1; Quality Factor-Min (at L-nom): 25; Max Current Rating: 540mA; Self Resonant Frequency: 5.5GHz; Shape/Size Description: RECTANGULAR PACKAGE; Shielding: Unshielded; Test Frequency: 100MHz; Package Height: 0.5mm; Package Length: 1mm; Package Width: 0.6mm; Supplier: Digikey; Supplier Part Number: 490-6849-1-ND; Manufacturer Part Number: LQW15AN8N2G00D; RoHS: Yes; Category: Fixed Inductors; Stock: 61912; Pricing: 1=0.15, 10=0.126, 25=0.1156, 50=0.102, 100=0.0892, 250=0.08496, 500=0.07988, 1000=0.06118, 2500=0.05778 (USD); Pins: 2; Core Material: Alumina; Terminal Finish: Nickel; Min Operating Temperature: -55°C; Max Operating Temperature: 125°C; Tolerance: 2%; JESD-609 Code: e3; Construction: Wirewound Chip; Inductance-Nom (L): 0.0082uH; Inductor Type: GENERAL PURPOSE INDUCTOR; Package Style: SMTMeter; Packaging: Tape and Reel; Surface Mount: Yes; Terminal Placement: Dual Ended; Termination: One Surface; Reach SVHC Compliant: Yes; RoHS Compliant: Yes; ComponentLink1URL: https://datasheet.ciiva.com:443/pdfs/VipMasterIC/IC/MURE/MURE-S-A0004390706/MURE-S-A0004390637-1.pdf?src-supplier=IHS+Markit; ComponentLink1Description: https://datasheet.ciiva.com:443/pdfs/VipMasterIC/IC/MURE/MURE-S-A0004390706/MURE-S-A0004390637-1.pdf?src-supplier=IHS+Markit; ComponentLink2URL: https://datasheet.ciiva.com/11799/0900766b8090d800-11799384.pdf?src-supplier=Rs; ComponentLink2Description: https://datasheet.ciiva.com/11799/0900766b8090d800-11799384.pdf?src-supplier=Rs; ComponentLink3URL: https://datasheet.ciiva.com/16455/l0075s0080lqw15a-00-16455832.pdf?src-supplier=Future+Electronics; ComponentLink3Description: https://datasheet.ciiva.com/16455/l0075s0080lqw15a-00-16455832.pdf?src-supplier=Future+Electronics; Supplier 1: Digikey; Supplier Part Number 1: 490-6849-1-ND
footprint 8_2nH_0402_Inductor
pins: 1, 2

## 8MHz_Oscillator
designator Y?, comment 8MHz
Crystal 8MHz ±20ppm (Tol) ±30ppm (Stability) 18pF FUND 100Ohm 2-Pin Mini-CSMD T/R, ABM7-8.000MHZ-D2Y-T; Manufacturer: Abracon; Supplier: Digikey; Supplier Part Number: 535-9831-1-ND; Manufacturer Part Number: ABM7-8.000MHZ-D2Y-T; RoHS: Yes; Category: Crystals; Stock: 52812; Pricing: 1=0.69, 10=0.577, 50=0.519, 100=0.4613, 500=0.4382 (USD); ComponentLink1URL: https://datasheet.ciiva.com/1357/1718755-1357277.pdf?src-supplier=Element14; ComponentLink1Description: https://datasheet.ciiva.com/1357/1718755-1357277.pdf?src-supplier=Element14; ComponentLink2URL: https://datasheet.ciiva.com/15116/getdatasheetpartid-722403-15116844.pdf?src-supplier=Verical; ComponentLink2Description: https://datasheet.ciiva.com/15116/getdatasheetpartid-722403-15116844.pdf?src-supplier=Verical; ComponentLink3URL: https://datasheet.ciiva.com/4944/abm7-19096-4944987.pdf?src-supplier=Mouser; ComponentLink3Description: https://datasheet.ciiva.com/4944/abm7-19096-4944987.pdf?src-supplier=Mouser; ComponentLink4URL: https://datasheet.ciiva.com/29998/abm7-29998171.pdf?src-supplier=Avnet; ComponentLink4Description: https://datasheet.ciiva.com/29998/abm7-29998171.pdf?src-supplier=Avnet; ComponentLink5URL: https://datasheet.ciiva.com/16416/abm7-16416924.pdf?src-supplier=Future+Electronics; ComponentLink5Description: https://datasheet.ciiva.com/16416/abm7-16416924.pdf?src-supplier=Future+Electronics; Supplier 1: Digikey; Supplier Part Number 1: 535-9831-1-ND
footprint 8MHz_Oscillator
pins: 1, 2

## 10k_0603_Resistor
designator R?, comment 10 k
Fixed Resistor, Thin Film, 0.1W, 10000ohm, 75V, 0.1% +/-Tol, 25ppm/Cel, Surface Mount, 0603, RT0603BRD1010KL; Manufacturer: Yageo; Manufacturer Series: RT; Power: 100mW; Rated Temperature: 70°C; Value: 10kR; Temperature Coefficient: 25ppm/°C; Package Height: 0.45mm; Package Length: 1.6mm; Package Width: 0.8mm; Supplier: Digikey; Supplier Part Number: YAG5992CT-ND; Manufacturer Part Number: RT0603BRD1010KL; RoHS: Yes; Category: Chip SMD Resistors; Stock: 71276; Pricing: 1=0.14, 10=0.104, 50=0.0822, 100=0.0737, 500=0.05612, 1000=0.04959, 5000=0.03675 (USD); Mounting Technology: Surface Mount; Pins: 2; Package Shape: Rectangular; Case/Package: 0603; Terminal Finish: Nickel; Min Operating Temperature: -55°C; Max Operating Temperature: 155°C; Tolerance: 0.1%; JESD-609 Code: e3; Resistor Type: FIXED RESISTOR; Construction: Chip; Package Style: SMTMeter; Packaging: Tape and Reel; Series: RT; Technology: THIN FILM; Termination: Wraparound; Working Voltage: 75V; Reach SVHC Compliant: Yes; RoHS Compliant: Yes; ComponentLink1URL: https://datasheet.ciiva.com:443/pdfs/VipMasterIC/IC/YAGO/YAGO-S-A0008510989/YAGO-S-A0008510989-1.pdf?src-supplier=IHS+Markit; ComponentLink1Description: https://datasheet.ciiva.com:443/pdfs/VipMasterIC/IC/YAGO/YAGO-S-A0008510989/YAGO-S-A0008510989-1.pdf?src-supplier=IHS+Markit; ComponentLink2URL: https://www.yageo.com/upload/media/product/productsearch/datasheet/rchip/PYu-RT_1-to-0.01_RoHS_L_12.pdf?src-supplier=Digikey; ComponentLink2Description: https://www.yageo.com/upload/media/product/productsearch/datasheet/rchip/PYu-RT_1-to-0.01_RoHS_L_12.pdf?src-supplier=Digikey; ComponentLink3URL: https://datasheet.octopart.com/RT0603BRD1010KL-Yageo-datasheet-169971040.pdf?src-supplier=Future+Electronics; ComponentLink3Description: https://datasheet.octopart.com/RT0603BRD1010KL-Yageo-datasheet-169971040.pdf?src-supplier=Future+Electronics; Supplier 1: Digikey; Supplier Part Number 1: YAG5992CT-ND
footprint 10k_0603_Resistor
pins: 1, 2

## 10nF_0402_Capacitor
designator C?, comment 10 nF
Ceramic Capacitor, Multilayer, Ceramic, 16V, 10% +Tol, 10% -Tol, X7R, 15% TC, 0.01uF, Surface Mount, 0402, CC0402KRX7R7BB103; Manufacturer: Yageo; Value: 10nF; Multilayer: Yes; Supplier: Digikey; Supplier Part Number: 311-1042-1-ND; Manufacturer Part Number: CC0402KRX7R7BB103; RoHS: Yes; Category: Ceramic Capacitors; Stock: 1013311; Pricing: 1=0.1, 10=0.015, 50=0.0088, 100=0.0068, 500=0.0051, 1000=0.004, 2500=0.00364, 5000=0.00335 (USD); Mounting Technology: Surface Mount; Pins: 2; Dielectric Material: Ceramic; Package Shape: Rectangular; Case/Package: 0402; Terminal Finish: Nickel; Min Operating Temperature: -55°C; Max Operating Temperature: 125°C; JESD-609 Code: e3; Capacitor Type: Ceramic; Tolerance  (fill in as +-): 10%; Package Style: SMTMeter; Packaging: Tape and Reel; Tolerance (fill in as +-): 10%; Rated DC Voltage (URdc): 16V; Temperature Characteristics Code: X7R; Termination: Wraparound; Length: 1mm; Width: 0.5mm; Height: 0.5mm; Reach SVHC Compliant: Yes; RoHS Compliant: Yes; ComponentLink1URL: https://datasheet.ciiva.com:443/pdfs/VipMasterIC/IC/YAGO/YAGO-S-A0003557223/YAGO-S-A0003557223-1.pdf?src-supplier=IHS+Markit; ComponentLink1Description: https://datasheet.ciiva.com:443/pdfs/VipMasterIC/IC/YAGO/YAGO-S-A0003557223/YAGO-S-A0003557223-1.pdf?src-supplier=IHS+Markit; ComponentLink2URL: https://datasheet.ciiva.com/143/mlccorderingcode-143950.pdf?src-supplier=Digikey; ComponentLink2Description: https://datasheet.ciiva.com/143/mlccorderingcode-143950.pdf?src-supplier=Digikey; ComponentLink3URL: https://datasheet.ciiva.com/143/mlccorderingcode-143951.pdf?src-supplier=Digikey; ComponentLink3Description: https://datasheet.ciiva.com/143/mlccorderingcode-143951.pdf?src-supplier=Digikey; ComponentLink4URL: https://datasheet.ciiva.com/143/upy-gphc-x7r-6-3v-to-50v-8-143952.pdf?src-supplier=Digikey; ComponentLink4Description: https://datasheet.ciiva.com/143/upy-gphc-x7r-6-3v-to-50v-8-143952.pdf?src-supplier=Digikey; ComponentLink5URL: https://datasheet.ciiva.com/28450/1489800-28450330.pdf?src-supplier=Element14; ComponentLink5Description: https://datasheet.ciiva.com/28450/1489800-28450330.pdf?src-supplier=Element14; ComponentLink6URL: https://datasheet.ciiva.com/8033/70765-8033655.pdf?src-supplier=Element14; ComponentLink6Description: https://datasheet.ciiva.com/8033/70765-8033655.pdf?src-supplier=Element14; ComponentLink7URL: https://datasheet.ciiva.com/8033/1489800-8033658.pdf?src-supplier=Element14; ComponentLink7Description: https://datasheet.ciiva.com/8033/1489800-8033658.pdf?src-supplier=Element14; ComponentLink8URL: https://datasheet.ciiva.com/8033/1489800-8033659.pdf?src-supplier=Element14; ComponentLink8Description: https://datasheet.ciiva.com/8033/1489800-8033659.pdf?src-supplier=Element14; ComponentLink9URL: https://datasheet.ciiva.com/5425/upy-gp-np0-16v-to-50v-8-3714-5425438.pdf?src-supplier=Mouser; ComponentLink9Description: https://datasheet.ciiva.com/5425/upy-gp-np0-16v-to-50v-8-3714-5425438.pdf?src-supplier=Mouser; ComponentLink10URL: https://datasheet.ciiva.com/7978/1489800-7978109.pdf?src-supplier=Element14; ComponentLink10Description: https://datasheet.ciiva.com/7978/1489800-7978109.pdf?src-supplier=Element14; Supplier 1: Digikey; Supplier Part Number 1: 311-1042-1-ND
footprint 10nF_0402_Capacitor
pins: 1, 2

## 10nF_0603_Capacitor
designator C?, comment 10 nF
Ceramic Capacitor, Multilayer, Ceramic, 50V, 10% +Tol, 10% -Tol, X7R, 15% TC, 0.01uF, Surface Mount, 0603, CC0603KRX7R9BB103; Manufacturer: Yageo; Value: 10nF; Multilayer: Yes; Supplier: Digikey; Supplier Part Number: 311-1085-1-ND; Manufacturer Part Number: CC0603KRX7R9BB103; RoHS: Yes; Category: Ceramic Capacitors; Stock: 4399663; Pricing: 1=0.1, 10=0.031, 50=0.0176, 100=0.0136, 500=0.01026, 1000=0.00805 (USD); Mounting Technology: Surface Mount; Pins: 2; Dielectric Material: Ceramic; Package Shape: Rectangular; Case/Package: 0603; Terminal Finish: Nickel; Min Operating Temperature: -55°C; Max Operating Temperature: 125°C; JESD-609 Code: e3; Capacitor Type: Ceramic; Tolerance  (fill in as +-): 10%; Package Style: SMTMeter; Packaging: Tape and Reel; Tolerance (fill in as +-): 10%; Rated DC Voltage (URdc): 50V; Temperature Characteristics Code: X7R; Termination: Wraparound; Length: 1.6mm; Width: 0.8mm; Height: 0.8mm; Reach SVHC Compliant: Yes; RoHS Compliant: Yes; ComponentLink1URL: https://datasheet.ciiva.com:443/pdfs/VipMasterIC/IC/YAGO/YAGO-S-A0003557223/YAGO-S-A0003557223-1.pdf?src-supplier=IHS+Markit; ComponentLink1Description: https://datasheet.ciiva.com:443/pdfs/VipMasterIC/IC/YAGO/YAGO-S-A0003557223/YAGO-S-A0003557223-1.pdf?src-supplier=IHS+Markit; Supplier 1: Digikey; Supplier Part Number 1: 311-1085-1-ND
footprint 10nF_0603_Capacitor
pins: 1, 2

## 10uF_0603_Capacitor
designator C?, comment 10 uF
Ceramic Capacitor, Multilayer, Ceramic, 6.3V, 10% +Tol, 10% -Tol, X5R, 15% TC, 10uF, Surface Mount, 0603, GRM188R60J106KE47D; Manufacturer: Murata; Multilayer: Yes; Supplier: Digikey; Supplier Part Number: 490-12538-1-ND; Manufacturer Part Number: GRM188R60J106KE47D; RoHS: Yes; Category: Ceramic Capacitors; Stock: 318904; Pricing: 1=0.13, 10=0.089, 50=0.053, 100=0.0417, 500=0.03078, 1000=0.02549 (USD); Mounting Technology: Surface Mount; Pins: 2; Dielectric Material: Ceramic; Package Shape: Rectangular; Case/Package: 0603; Terminal Finish: Nickel; Min Operating Temperature: -55°C; Max Operating Temperature: 85°C; JESD-609 Code: e3; Value: 10uF; Capacitor Type: Ceramic; Tolerance  (fill in as +-): 10%; Packaging: Tape and Reel; Tolerance (fill in as +-): 10%; Rated DC Voltage (URdc): 6.3V; Temperature Characteristics Code: X5R; Termination: Wraparound; Reach SVHC Compliant: Yes; RoHS Compliant: Yes; ComponentLink1URL: https://psearch.en.murata.com:443/capacitor/product/GRM188R60J106KE47%23.pdf?src-supplier=IHS+Markit; ComponentLink1Description: https://psearch.en.murata.com:443/capacitor/product/GRM188R60J106KE47%23.pdf?src-supplier=IHS+Markit; ComponentLink2URL: http://www.farnell.com/datasheets/1955679.pdf?src-supplier=Farnell; ComponentLink2Description: http://www.farnell.com/datasheets/1955679.pdf?src-supplier=Farnell; ComponentLink3URL: http://www.mouser.com/ds/2/281/c02e-2905.pdf?src-supplier=Mouser; ComponentLink3Description: http://www.mouser.com/ds/2/281/c02e-2905.pdf?src-supplier=Mouser; ComponentLink4URL: http://search.murata.co.jp/Ceramy/image/img/A01X/G101/ENG/GRM188R60J106KE47-02.pdf?src-supplier=Digikey; ComponentLink4Description: http://search.murata.co.jp/Ceramy/image/img/A01X/G101/ENG/GRM188R60J106KE47-02.pdf?src-supplier=Digikey; ComponentLink5URL: http://psearch.en.murata.com/capacitor/product/GRM188R60J106KE47%23.pdf?src-supplier=Avnet; ComponentLink5Description: http://psearch.en.murata.com/capacitor/product/GRM188R60J106KE47%23.pdf?src-supplier=Avnet; ComponentLink6URL: https://datasheet.octopart.com/GRM188R60J106KE47D-Murata-datasheet-76796297.pdf?src-supplier=Future+Electronics; ComponentLink6Description: https://datasheet.octopart.com/GRM188R60J106KE47D-Murata-datasheet-76796297.pdf?src-supplier=Future+Electronics; ComponentLink7URL: https://datasheet.octopart.com/GRM188R60J106KE47D-Murata-datasheet-46741883.pdf?src-supplier=Element14; ComponentLink7Description: https://datasheet.octopart.com/GRM188R60J106KE47D-Murata-datasheet-46741883.pdf?src-supplier=Element14; ComponentLink8URL: http://www.farnell.com/datasheets/1955679.pdf?src-supplier=Newark; ComponentLink8Description: http://www.farnell.com/datasheets/1955679.pdf?src-supplier=Newark; ComponentLink9URL: http://www.farnell.com/datasheets/1955679.pdf?src-supplier=Element14; ComponentLink9Description: http://www.farnell.com/datasheets/1955679.pdf?src-supplier=Element14; Supplier 1: Digikey; Supplier Part Number 1: 490-12538-1-ND
footprint 10uF_0603_Capacitor
pins: 1, 2